# Altium footprint library Calcul8.PcbLib: 8 footprints
Each footprint in its own frame and in the unit in brackets; x right, y up, seen from the top. Pads: shape width x height; smd on the part's side, far side on the other; paste and mask are expansions set on the pad; w line width, h text height; cw(c..) or ccw(c..) is an arc to the next point about the centre after c.
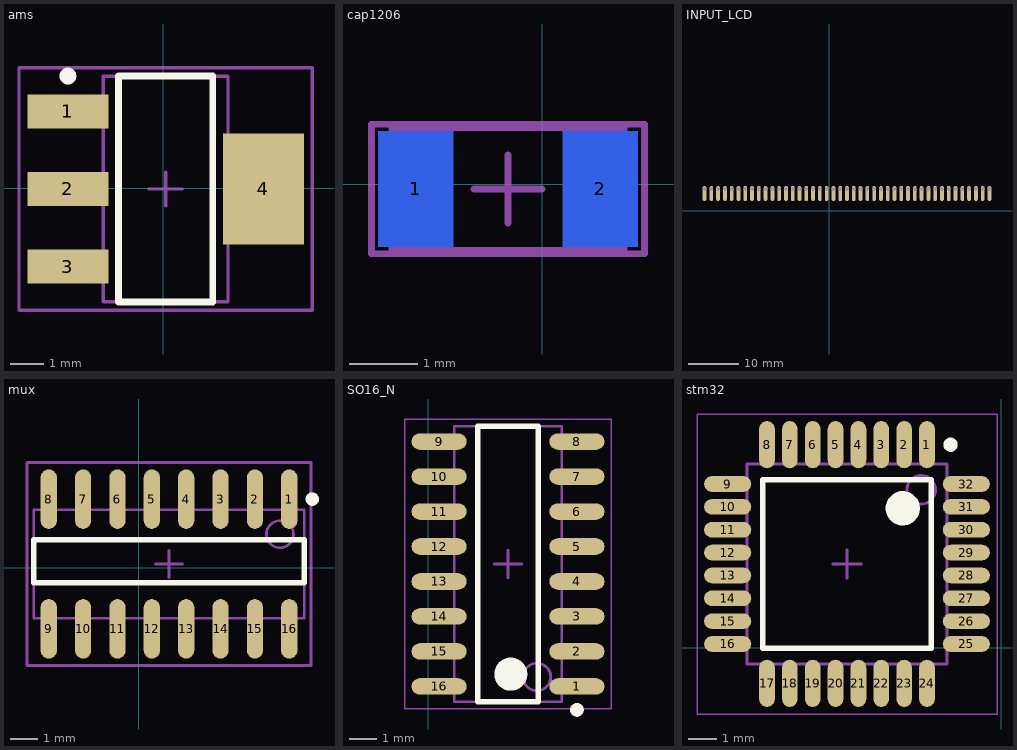
[diagram p0: the footprints below, top view; thin cyan lines are the x and y axes]

## ams [mm] "SOT223, 4-Leads, Body 6.5x3.5mm, Pitch 2.3mm, Lead Span 7mm, IPC Medium Density"
height 1.7
pads (4):
  rect 2.4x1 smd: 1(-2.831,2.285) 2(-2.831,-0.015) 3(-2.831,-2.315)
  rect 2.4x3.3 smd: 4(2.969,-0.015)
Top Overlay:
  circle w0.25: c-2.831,3.335 r0.125
  lines w0.2: -1.331,-3.365 1.469,-3.365 1.469,3.335 -1.331,3.335 -1.331,-3.365
Mechanical 13:
  lines w0.1: -1.781,-3.365 1.919,-3.365 1.919,3.335 -1.781,3.335 -1.781,-3.365
Mechanical 15:
  lines w0.1: -0.431,-0.015 0.569,-0.015 ; 0.069,-0.515 0.069,0.485 ; -4.281,-3.615 4.419,-3.615 4.419,3.585 -4.281,3.585 -4.281,-3.615
3D body: height 1.7, standoff 0, extent -1.781,-3.365 1.919,3.335

## cap1206 [mm]
pads (2):
  rect 1.1x1.7 smd far side: 1(-1.856,-0.067) 2(0.844,-0.067)
Bottom Overlay:
  lines w0.2: -0.906,-0.817 -0.106,-0.817 ; -0.906,0.683 -0.106,0.683
Mechanical 13:
  lines w0.1: -2.206,-0.967 1.194,-0.967 1.194,0.833 -2.206,0.833 -2.206,-0.967
Mechanical 15:
  lines w0.1: -1.006,-0.067 -0.006,-0.067 ; -0.506,-0.567 -0.506,0.433 ; -2.506,-1.017 1.494,-1.017 1.494,0.883 -2.506,0.883 -2.506,-1.017
3D body: height 1.3, standoff 0, extent -2.206,-0.967 1.194,0.833

## INPUT_LCD [mm]
pads (43):
  oval 0.75x3 hole 0.7 copper offset 0,-0.9: 4(-24.85,4.35) 5(-23.5,4.35) 6(-22.15,4.35) 7(-20.8,4.35) 8(-19.45,4.35) 9(-18.1,4.35) 11(-16.75,4.35) 12(-15.4,4.35) 13(-14.05,4.35) 15(-12.7,4.35) 16(-11.35,4.35) 17(-10,4.35) 19(-8.65,4.35) 20(-7.3,4.35) 21(-5.95,4.35) 23(-4.6,4.35) 24(-3.25,4.35) 25(-1.9,4.35) 26(-0.55,4.35) 27(0.8,4.35) 28(2.15,4.35) 29(3.5,4.35) 30(4.85,4.35) 31(6.2,4.35) 32(7.55,4.35) 33(8.9,4.35) 34(10.25,4.35) 35(11.6,4.35) 36(12.95,4.35) 37(14.3,4.35) 38(15.65,4.35) 39(17,4.35) 40(18.35,4.35) 41(19.7,4.35) 42(21.05,4.35) 43(22.4,4.35) 44(23.75,4.35) 45(25.1,4.35) 46(26.45,4.35) 47(27.8,4.35) 48(29.15,4.35) 49(30.5,4.35) 50(31.85,4.35)

## max32 [mm]

## mux [mm]
pads (16):
  oval 0.6x2.2 smd: 1(5.563,2.54) 2(4.293,2.54) 3(3.023,2.54) 4(1.753,2.54) 5(0.483,2.54) 6(-0.787,2.54) 7(-2.057,2.54) 8(-3.327,2.54) 9(-3.327,-2.26) 10(-2.057,-2.26) 11(-0.787,-2.26) 12(0.483,-2.26) 13(1.753,-2.26) 14(3.023,-2.26) 15(4.293,-2.26) 16(5.563,-2.26)
Top Overlay:
  circle w0.25: c6.413,2.54 r0.125
  lines w0.2: -3.882,-0.55 6.118,-0.55 6.118,1.04 -3.882,1.04 -3.882,-0.55
Mechanical 13:
  circle w0.1: c5.218,1.24 r0.5
  lines w0.1: -3.882,-1.86 6.118,-1.86 6.118,2.14 -3.882,2.14 -3.882,-1.86
Mechanical 15:
  lines w0.1: 0.618,0.14 1.618,0.14 ; 1.118,-0.36 1.118,0.64 ; -4.132,-3.61 6.368,-3.61 6.368,3.89 -4.132,3.89 -4.132,-3.61
3D body: height 1.75, standoff 0, extent -3.882,-1.86 6.118,2.14

## PCBComponent_1 [mm]

## SO16_N [mm] "SOIC, 16-Leads, Body 9.9x3.8mm, Pitch 1.27mm, IPC Medium Density"
height 1.75
pads (16):
  oval 2x0.6 smd: 1(5.389,6.069) 2(5.389,7.339) 3(5.389,8.609) 4(5.389,9.879) 5(5.389,11.149) 6(5.389,12.419) 7(5.389,13.689) 8(5.389,14.959) 9(0.389,14.959) 10(0.389,13.689) 11(0.389,12.419) 12(0.389,11.149) 13(0.389,9.879) 14(0.389,8.609) 15(0.389,7.339) 16(0.389,6.069)
Top Overlay:
  circle w0.6: c2.989,6.514 r0.3
  circle w0.25: c5.389,5.219 r0.125
  lines w0.2: 1.789,5.514 3.989,5.514 3.989,15.514 1.789,15.514 1.789,5.514
Mechanical 13:
  circle w0.1: c3.939,6.414 r0.5
  lines w0.1: 0.939,5.514 4.839,5.514 4.839,15.514 0.939,15.514 0.939,5.514
Mechanical 15:
  lines w0.05: -0.861,5.264 6.639,5.264 6.639,15.764 -0.861,15.764 -0.861,5.264
  lines w0.1: 2.389,10.514 3.389,10.514 ; 2.889,10.014 2.889,11.014
3D body: height 1.75, standoff 0.1, extent 0.939,5.514 4.839,15.514

## stm32 [mm]
pads (32):
  oval 0.55x1.65 smd: 1(-2.598,7.105) 2(-3.398,7.105) 3(-4.198,7.105) 4(-4.998,7.105) 5(-5.798,7.105) 6(-6.598,7.105) 7(-7.398,7.105) 8(-8.198,7.105) 17(-8.198,-1.245) 18(-7.398,-1.245) 19(-6.598,-1.245) 20(-5.798,-1.245) 21(-4.998,-1.245) 22(-4.198,-1.245) 23(-3.398,-1.245) 24(-2.598,-1.245)
  oval 1.65x0.55 smd: 9(-9.573,5.73) 10(-9.573,4.93) 11(-9.573,4.13) 12(-9.573,3.33) 13(-9.573,2.53) 14(-9.573,1.73) 15(-9.573,0.93) 16(-9.573,0.13) 25(-1.223,0.13) 26(-1.223,0.93) 27(-1.223,1.73) 28(-1.223,2.53) 29(-1.223,3.33) 30(-1.223,4.13) 31(-1.223,4.93) 32(-1.223,5.73)
Top Overlay:
  circle w0.6: c-3.448,4.88 r0.3
  circle w0.25: c-1.773,7.105 r0.125
  lines w0.2: -8.348,-0.02 -8.348,5.88 -2.448,5.88 -2.448,-0.02 -8.348,-0.02
Mechanical 13:
  circle w0.1: c-2.798,5.53 r0.5
  lines w0.1: -8.898,-0.57 -8.898,6.43 -1.898,6.43 -1.898,-0.57 -8.898,-0.57
Mechanical 15:
  lines w0.05: -10.648,-2.32 -10.648,8.18 -0.148,8.18 -0.148,-2.32 -10.648,-2.32
  lines w0.1: -5.898,2.93 -4.898,2.93 ; -5.398,2.43 -5.398,3.43
3D body: height 1.6, standoff 0.05, extent -8.898,-0.57 -1.898,6.43